# Altium footprint library MUI.PcbLib: 38 footprints (part 3 of 3)
Each footprint in its own frame and in the unit in brackets; x right, y up, seen from the top. Pads: shape width x height; smd on the part's side, far side on the other; paste and mask are expansions set on the pad; w line width, h text height; cw(c..) or ccw(c..) is an arc to the next point about the centre after c.
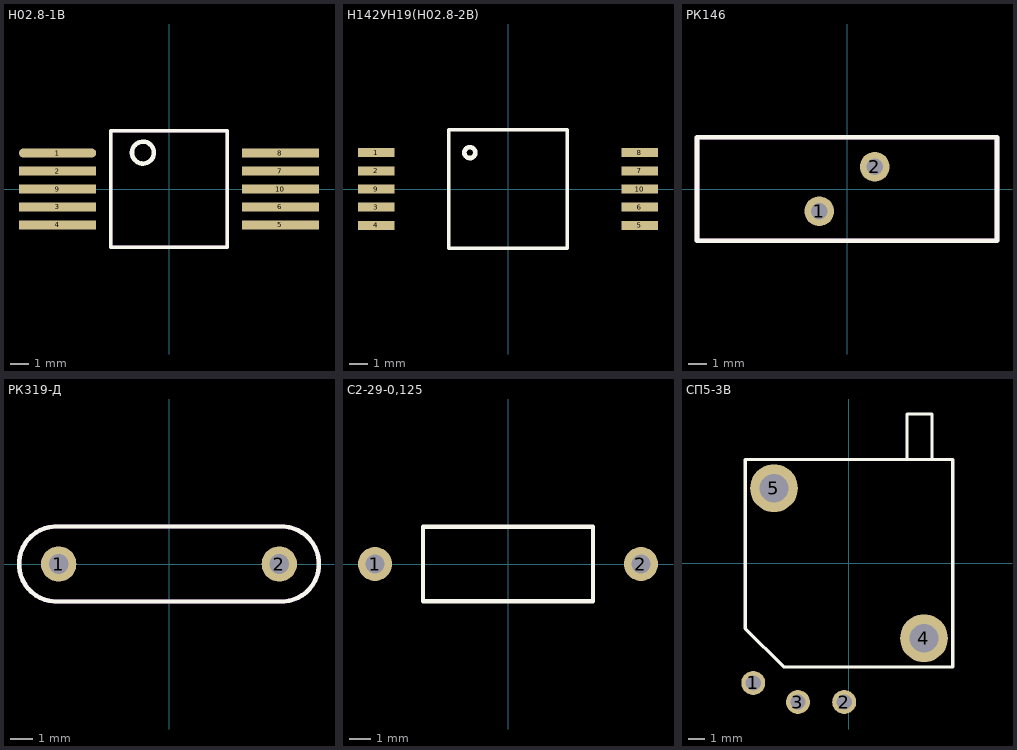
[diagram p2: the footprints below, top view; thin cyan lines are the x and y axes]

## Н02.8-1В [mm]
pads (10):
  oval 4.3x0.5 smd: 1(-6.2,2)
  rect 4.3x0.5 smd: 2(-6.2,1) 3(-6.2,-1) 4(-6.2,-2) 5(6.2,-2) 6(6.2,-1) 7(6.2,1) 8(6.2,2) 9(-6.2,0) 10(6.2,0)
Top Overlay:
  circle w0.254: c-1.45,2.025 r0.61
  lines w0.2: -3.25,-3.25 3.25,-3.25 3.25,3.25 -3.25,3.25 -3.25,-3.25
Mechanical 1:
  lines w0.2: -3.25,-3.25 3.25,-3.25 3.25,3.25 -3.25,3.25 -3.25,-3.25
3D body: height 2.9, standoff 0.1, extent -3.25,-3.25 3.25,3.25

## Н142УН19(Н02.8-2В) [mm]
pads (10):
  rect 2x0.5 smd: 1(-7.25,2) 2(-7.25,1) 3(-7.25,-1) 4(-7.25,-2) 5(7.25,-2) 6(7.25,-1) 7(7.25,1) 8(7.25,2) 9(-7.25,0) 10(7.25,0)
Top Overlay:
  circle w0.254: c-2.1,2 r0.3
  lines w0.2: -3.25,-3.25 3.25,-3.25 3.25,3.25 -3.25,3.25 -3.25,-3.25

## РК146 [mm]
pads (2):
  round 1.6 hole 0.9: 1(-1.5,-1.2) 2(1.5,1.2)
Top Overlay:
  lines w0.254: -8.1,-2.8 -8.1,2.8 8.1,2.8 8.1,-2.8 -8.1,-2.8
Mechanical 1:
  lines w0.254: -8.1,-2.8 -8.1,2.8 8.1,2.8 8.1,-2.8 -8.1,-2.8
3D body: height 3.4, standoff 0.1, extent -8.1,-2.8 8.1,2.8

## РК319-Д [mm]
pads (2):
  round 1.6 hole 0.9: 1(-5,0) 2(5,0)
Top Overlay:
  lines w0.2: -5.2,-1.7 cw(c-5.097,0) -5.2,1.7 5,1.7 cw(c5.097,0) 5,-1.7 -5.2,-1.7
Mechanical 1:
  lines w0.2: -5.3,-1.7 5.15,-1.7 ; -5.3,1.7 5.125,1.7 ; -5.025,-1.7 cw(c-5.098,0) -5.025,1.7 ; 5.1,-1.7 ccw(c5.1,0) 5.1,1.7
3D body: height 3.6, standoff 0, extent -6.801,-1.702 6.801,1.702

## С2-29-0,125 [mm]
pads (2):
  round 1.6 hole 0.9: 1(-6.25,0) 2(6.25,0)
Top Overlay:
  lines w0.2: -4,-1.75 -4,1.75 4,1.75 4,-1.75 -4,-1.75

## СП5-3В [mm]
pads (5):
  round 1.5 hole 0.95: 1(-6,-7.5) 2(-0.3,-8.7) 3(-3.2,-8.7)
  round 3 hole 1.8: 4(4.7,-4.7) 5(-4.7,4.7)
Top Overlay:
  lines w0.2: 3.64,6.5 3.64,9.35 5.2,9.35 5.2,6.5 ; -6.5,-4.1 -6.5,6.5 6.5,6.5 6.5,-6.5 -4.1,-6.5 -6.5,-4.1
3D body: height 5.9, standoff 0, extent -6.5,-6.5 6.5,6.5